# Altium footprint library IDC.PcbLib: 30 footprints (part 1 of 2)
Each footprint in its own frame and in the unit in brackets; x right, y up, seen from the top. Pads: shape width x height; smd on the part's side, far side on the other; paste and mask are expansions set on the pad; w line width, h text height; cw(c..) or ccw(c..) is an arc to the next point about the centre after c.
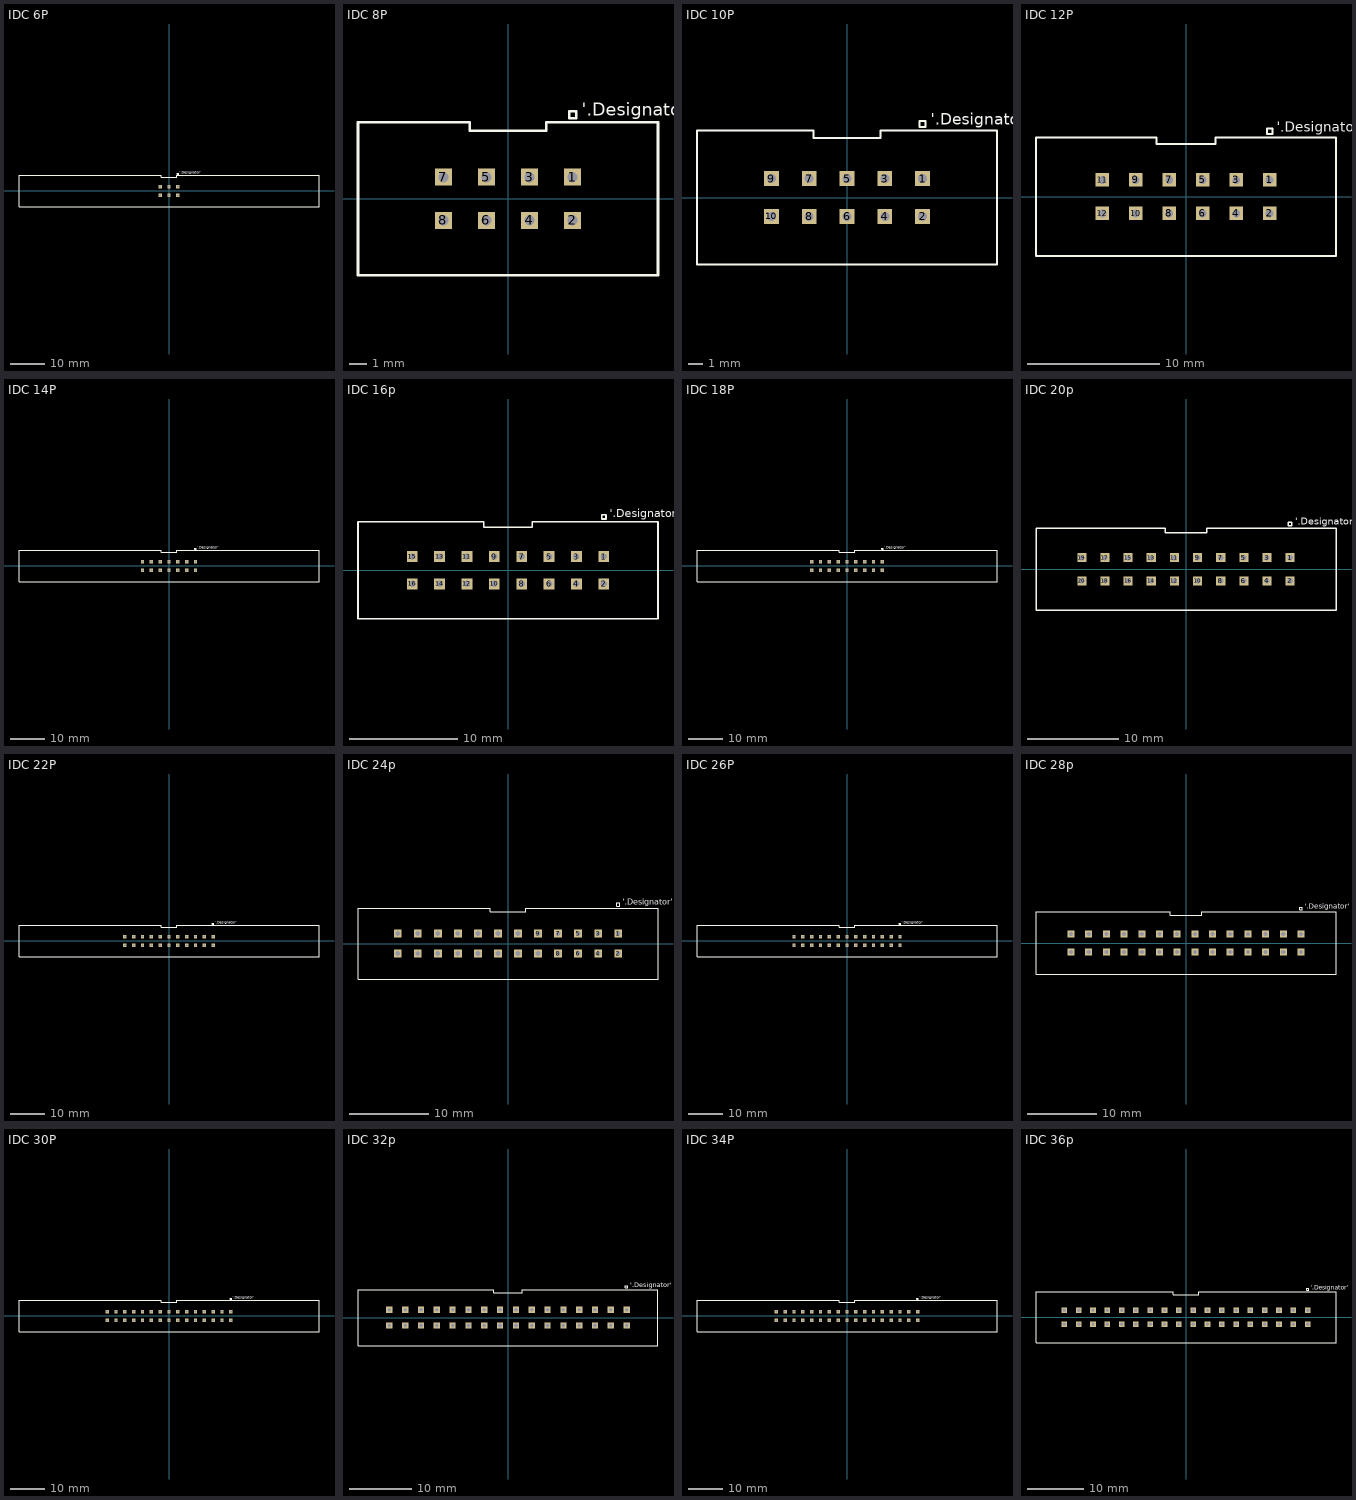
[diagram p0: the footprints below, top view; thin cyan lines are the x and y axes]

## IDC 6P [mm]
pads (6):
  rect 1x1 hole 0.6: 1(2.54,1.27) 2(2.54,-1.27) 3(0,1.27) 4(0,-1.27) 5(-2.54,1.27) 6(-2.54,-1.27)
Top Overlay:
  lines w0.15: -43.13,-4.5 -43.13,4.5 -2.25,4.5 -2.25,4 2.25,4 2.25,4.5 43.13,4.5 43.13,-4.5 -43.13,-4.5 ; 2.34,4.75 2.34,5.15 2.74,5.15 2.74,4.75 2.34,4.75
  text "'.Designator'" at 3.09,4.9 h0.75

## IDC 8P [mm]
pads (8):
  rect 1x1 hole 0.6: 1(3.81,1.27) 2(3.81,-1.27) 3(1.27,1.27) 4(1.27,-1.27) 5(-1.27,1.27) 6(-1.27,-1.27) 7(-3.81,1.27) 8(-3.81,-1.27)
Top Overlay:
  lines w0.15: -8.84,-4.5 8.84,-4.5 8.84,4.5 2.25,4.5 2.25,4 -2.25,4 -2.25,4.5 -8.84,4.5 -8.84,-4.5 ; 3.61,4.75 4.01,4.75 4.01,5.15 3.61,5.15 3.61,4.75
  text "'.Designator'" at 4.36,4.9 h0.75

## IDC 10P [mm]
pads (10):
  rect 1x1 hole 0.6: 1(5.08,1.27) 2(5.08,-1.27) 3(2.54,1.27) 4(2.54,-1.27) 5(0,1.27) 6(0,-1.27) 7(-2.54,1.27) 8(-2.54,-1.27) 9(-5.08,1.27) 10(-5.08,-1.27)
Top Overlay:
  lines w0.15: -10.08,-4.5 -10.08,4.5 -2.25,4.5 -2.25,4 2.25,4 2.25,4.5 10.08,4.5 10.08,-4.5 -10.08,-4.5 ; 4.88,4.75 4.88,5.15 5.28,5.15 5.28,4.75 4.88,4.75
  text "'.Designator'" at 5.63,4.9 h0.75

## IDC 12P [mm]
pads (12):
  rect 1x1 hole 0.6: 1(6.35,1.27) 2(6.35,-1.27) 3(3.81,1.27) 4(3.81,-1.27) 5(1.27,1.27) 6(1.27,-1.27) 7(-1.27,1.27) 8(-1.27,-1.27) 9(-3.81,1.27) 10(-3.81,-1.27) 11(-6.35,1.27) 12(-6.35,-1.27)
Top Overlay:
  lines w0.15: -11.38,-4.5 -11.38,4.5 -2.25,4.5 -2.25,4 2.25,4 2.25,4.5 11.38,4.5 11.38,-4.5 -11.38,-4.5 ; 6.15,4.75 6.15,5.15 6.55,5.15 6.55,4.75 6.15,4.75
  text "'.Designator'" at 6.9,4.9 h0.75

## IDC 14P [mm]
pads (14):
  rect 1x1 hole 0.6: 1(7.62,1.27) 2(7.62,-1.27) 3(5.08,1.27) 4(5.08,-1.27) 5(2.54,1.27) 6(2.54,-1.27) 7(0,1.27) 8(0,-1.27) 9(-2.54,1.27) 10(-2.54,-1.27) 11(-5.08,1.27) 12(-5.08,-1.27) 13(-7.62,1.27) 14(-7.62,-1.27)
Top Overlay:
  lines w0.15: -43.13,-4.5 43.13,-4.5 43.13,4.5 2.25,4.5 2.25,4 -2.25,4 -2.25,4.5 -43.13,4.5 -43.13,-4.5 ; 7.42,4.75 7.82,4.75 7.82,5.15 7.42,5.15 7.42,4.75
  text "'.Designator'" at 8.17,4.9 h0.75

## IDC 16p [mm]
pads (16):
  rect 1x1 hole 0.6: 1(8.89,1.27) 2(8.89,-1.27) 3(6.35,1.27) 4(6.35,-1.27) 5(3.81,1.27) 6(3.81,-1.27) 7(1.27,1.27) 8(1.27,-1.27) 9(-1.27,1.27) 10(-1.27,-1.27) 11(-3.81,1.27) 12(-3.81,-1.27) 13(-6.35,1.27) 14(-6.35,-1.27) 15(-8.89,1.27) 16(-8.89,-1.27)
Top Overlay:
  lines w0.15: -13.92,-4.5 13.92,-4.5 13.92,4.5 2.25,4.5 2.25,4 -2.25,4 -2.25,4.5 -13.92,4.5 -13.92,-4.5 ; 8.69,4.75 9.09,4.75 9.09,5.15 8.69,5.15 8.69,4.75
  text "'.Designator'" at 9.44,4.9 h0.75

## IDC 18P [mm]
pads (18):
  rect 1x1 hole 0.6: 1(10.16,1.27) 2(10.16,-1.27) 3(7.62,1.27) 4(7.62,-1.27) 5(5.08,1.27) 6(5.08,-1.27) 7(2.54,1.27) 8(2.54,-1.27) 9(0,1.27) 10(0,-1.27) 11(-2.54,1.27) 12(-2.54,-1.27) 13(-5.08,1.27) 14(-5.08,-1.27) 15(-7.62,1.27) 16(-7.62,-1.27) 17(-10.16,1.27) 18(-10.16,-1.27)
Top Overlay:
  lines w0.15: -43.13,-4.5 43.13,-4.5 43.13,4.5 2.25,4.5 2.25,4 -2.25,4 -2.25,4.5 -43.13,4.5 -43.13,-4.5 ; 9.96,4.75 10.36,4.75 10.36,5.15 9.96,5.15 9.96,4.75
  text "'.Designator'" at 10.71,4.9 h0.75

## IDC 20p [mm]
pads (20):
  rect 1x1 hole 0.6: 1(11.43,1.27) 2(11.43,-1.27) 3(8.89,1.27) 4(8.89,-1.27) 5(6.35,1.27) 6(6.35,-1.27) 7(3.81,1.27) 8(3.81,-1.27) 9(1.27,1.27) 10(1.27,-1.27) 11(-1.27,1.27) 12(-1.27,-1.27) 13(-3.81,1.27) 14(-3.81,-1.27) 15(-6.35,1.27) 16(-6.35,-1.27) 17(-8.89,1.27) 18(-8.89,-1.27) 19(-11.43,1.27) 20(-11.43,-1.27)
Top Overlay:
  lines w0.15: -16.46,-4.5 -16.46,4.5 -2.25,4.5 -2.25,4 2.25,4 2.25,4.5 16.46,4.5 16.46,-4.5 -16.46,-4.5 ; 11.23,4.75 11.23,5.15 11.63,5.15 11.63,4.75 11.23,4.75
  text "'.Designator'" at 11.98,4.9 h0.75

## IDC 22P [mm]
pads (22):
  rect 1x1 hole 0.6: 1(12.7,1.27) 2(12.7,-1.27) 3(10.16,1.27) 4(10.16,-1.27) 5(7.62,1.27) 6(7.62,-1.27) 7(5.08,1.27) 8(5.08,-1.27) 9(2.54,1.27) 10(2.54,-1.27) 11(0,1.27) 12(0,-1.27) 13(-2.54,1.27) 14(-2.54,-1.27) 15(-5.08,1.27) 16(-5.08,-1.27) 17(-7.62,1.27) 18(-7.62,-1.27) 19(-10.16,1.27) 20(-10.16,-1.27) 21(-12.7,1.27) 22(-12.7,-1.27)
Top Overlay:
  lines w0.15: -43.13,-4.5 -43.13,4.5 -2.25,4.5 -2.25,4 2.25,4 2.25,4.5 43.13,4.5 43.13,-4.5 -43.13,-4.5 ; 12.5,4.75 12.5,5.15 12.9,5.15 12.9,4.75 12.5,4.75
  text "'.Designator'" at 13.25,4.9 h0.75

## IDC 24p [mm]
pads (24):
  rect 1x1 hole 0.6: 1(13.97,1.27) 2(13.97,-1.27) 3(11.43,1.27) 4(11.43,-1.27) 5(8.89,1.27) 6(8.89,-1.27) 7(6.35,1.27) 8(6.35,-1.27) 9(3.81,1.27) 10(3.81,-1.27) 11(1.27,1.27) 12(1.27,-1.27) 13(-1.27,1.27) 14(-1.27,-1.27) 15(-3.81,1.27) 16(-3.81,-1.27) 17(-6.35,1.27) 18(-6.35,-1.27) 19(-8.89,1.27) 20(-8.89,-1.27) 21(-11.43,1.27) 22(-11.43,-1.27) 23(-13.97,1.27) 24(-13.97,-1.27)
Top Overlay:
  lines w0.15: -19,-4.5 19,-4.5 19,4.5 2.25,4.5 2.25,4 -2.25,4 -2.25,4.5 -19,4.5 -19,-4.5 ; 13.77,4.75 13.77,5.15 14.17,5.15 14.17,4.75 13.77,4.75
  text "'.Designator'" at 14.52,4.9 h0.75

## IDC 26P [mm]
pads (26):
  rect 1x1 hole 0.6: 1(15.24,1.27) 2(15.24,-1.27) 3(12.7,1.27) 4(12.7,-1.27) 5(10.16,1.27) 6(10.16,-1.27) 7(7.62,1.27) 8(7.62,-1.27) 9(5.08,1.27) 10(5.08,-1.27) 11(2.54,1.27) 12(2.54,-1.27) 13(0,1.27) 14(0,-1.27) 15(-2.54,1.27) 16(-2.54,-1.27) 17(-5.08,1.27) 18(-5.08,-1.27) 19(-7.62,1.27) 20(-7.62,-1.27) 21(-10.16,1.27) 22(-10.16,-1.27) 23(-12.7,1.27) 24(-12.7,-1.27) 25(-15.24,1.27) 26(-15.24,-1.27)
Top Overlay:
  lines w0.15: -43.13,-4.5 -43.13,4.5 -2.25,4.5 -2.25,4 2.25,4 2.25,4.5 43.13,4.5 43.13,-4.5 -43.13,-4.5 ; 15.04,4.75 15.44,4.75 15.44,5.15 15.04,5.15 15.04,4.75
  text "'.Designator'" at 15.79,4.9 h0.75

## IDC 28p [mm]
pads (28):
  rect 1x1 hole 0.6: 1(16.51,1.27) 2(16.51,-1.27) 3(13.97,1.27) 4(13.97,-1.27) 5(11.43,1.27) 6(11.43,-1.27) 7(8.89,1.27) 8(8.89,-1.27) 9(6.35,1.27) 10(6.35,-1.27) 11(3.81,1.27) 12(3.81,-1.27) 13(1.27,1.27) 14(1.27,-1.27) 15(-1.27,1.27) 16(-1.27,-1.27) 17(-3.81,1.27) 18(-3.81,-1.27) 19(-6.35,1.27) 20(-6.35,-1.27) 21(-8.89,1.27) 22(-8.89,-1.27) 23(-11.43,1.27) 24(-11.43,-1.27) 25(-13.97,1.27) 26(-13.97,-1.27) 27(-16.51,1.27) 28(-16.51,-1.27)
Top Overlay:
  lines w0.15: -21.54,-4.5 -21.54,4.5 -2.25,4.5 -2.25,4 2.25,4 2.25,4.5 21.54,4.5 21.54,-4.5 -21.54,-4.5 ; 16.31,4.75 16.71,4.75 16.71,5.15 16.31,5.15 16.31,4.75
  text "'.Designator'" at 17.06,4.9 h0.75

## IDC 30P [mm]
pads (30):
  rect 1x1 hole 0.6: 1(17.78,1.27) 2(17.78,-1.27) 3(15.24,1.27) 4(15.24,-1.27) 5(12.7,1.27) 6(12.7,-1.27) 7(10.16,1.27) 8(10.16,-1.27) 9(7.62,1.27) 10(7.62,-1.27) 11(5.08,1.27) 12(5.08,-1.27) 13(2.54,1.27) 14(2.54,-1.27) 15(0,1.27) 16(0,-1.27) 17(-2.54,1.27) 18(-2.54,-1.27) 19(-5.08,1.27) 20(-5.08,-1.27) 21(-7.62,1.27) 22(-7.62,-1.27) 23(-10.16,1.27) 24(-10.16,-1.27) 25(-12.7,1.27) 26(-12.7,-1.27) 27(-15.24,1.27) 28(-15.24,-1.27) 29(-17.78,1.27) 30(-17.78,-1.27)
Top Overlay:
  lines w0.15: -43.13,-4.5 43.13,-4.5 43.13,4.5 2.25,4.5 2.25,4 -2.25,4 -2.25,4.5 -43.13,4.5 -43.13,-4.5 ; 17.58,4.75 17.98,4.75 17.98,5.15 17.58,5.15 17.58,4.75
  text "'.Designator'" at 18.33,4.9 h0.75

## IDC 32p [mm]
pads (32):
  rect 1x1 hole 0.6: 1(19.05,1.27) 2(19.05,-1.27) 3(16.51,1.27) 4(16.51,-1.27) 5(13.97,1.27) 6(13.97,-1.27) 7(11.43,1.27) 8(11.43,-1.27) 9(8.89,1.27) 10(8.89,-1.27) 11(6.35,1.27) 12(6.35,-1.27) 13(3.81,1.27) 14(3.81,-1.27) 15(1.27,1.27) 16(1.27,-1.27) 17(-1.27,1.27) 18(-1.27,-1.27) 19(-3.81,1.27) 20(-3.81,-1.27) 21(-6.35,1.27) 22(-6.35,-1.27) 23(-8.89,1.27) 24(-8.89,-1.27) 25(-11.43,1.27) 26(-11.43,-1.27) 27(-13.97,1.27) 28(-13.97,-1.27) 29(-16.51,1.27) 30(-16.51,-1.27) 31(-19.05,1.27) 32(-19.05,-1.27)
Top Overlay:
  lines w0.15: -24.08,-4.5 24.08,-4.5 24.08,4.5 2.25,4.5 2.25,4 -2.25,4 -2.25,4.5 -24.08,4.5 -24.08,-4.5 ; 18.85,4.75 19.25,4.75 19.25,5.15 18.85,5.15 18.85,4.75
  text "'.Designator'" at 19.6,4.9 h0.75

## IDC 34P [mm]
pads (34):
  rect 1x1 hole 0.6: 1(20.32,1.27) 2(20.32,-1.27) 3(17.78,1.27) 4(17.78,-1.27) 5(15.24,1.27) 6(15.24,-1.27) 7(12.7,1.27) 8(12.7,-1.27) 9(10.16,1.27) 10(10.16,-1.27) 11(7.62,1.27) 12(7.62,-1.27) 13(5.08,1.27) 14(5.08,-1.27) 15(2.54,1.27) 16(2.54,-1.27) 17(0,1.27) 18(0,-1.27) 19(-2.54,1.27) 20(-2.54,-1.27) 21(-5.08,1.27) 22(-5.08,-1.27) 23(-7.62,1.27) 24(-7.62,-1.27) 25(-10.16,1.27) 26(-10.16,-1.27) 27(-12.7,1.27) 28(-12.7,-1.27) 29(-15.24,1.27) 30(-15.24,-1.27) 31(-17.78,1.27) 32(-17.78,-1.27) 33(-20.32,1.27) 34(-20.32,-1.27)
Top Overlay:
  lines w0.15: -43.13,-4.5 43.13,-4.5 43.13,4.5 2.25,4.5 2.25,4 -2.25,4 -2.25,4.5 -43.13,4.5 -43.13,-4.5 ; 20.12,4.75 20.52,4.75 20.52,5.15 20.12,5.15 20.12,4.75
  text "'.Designator'" at 20.87,4.9 h0.75

## IDC 36p [mm]
pads (36):
  rect 1x1 hole 0.6: 1(21.59,1.27) 2(21.59,-1.27) 3(19.05,1.27) 4(19.05,-1.27) 5(16.51,1.27) 6(16.51,-1.27) 7(13.97,1.27) 8(13.97,-1.27) 9(11.43,1.27) 10(11.43,-1.27) 11(8.89,1.27) 12(8.89,-1.27) 13(6.35,1.27) 14(6.35,-1.27) 15(3.81,1.27) 16(3.81,-1.27) 17(1.27,1.27) 18(1.27,-1.27) 19(-1.27,1.27) 20(-1.27,-1.27) 21(-3.81,1.27) 22(-3.81,-1.27) 23(-6.35,1.27) 24(-6.35,-1.27) 25(-8.89,1.27) 26(-8.89,-1.27) 27(-11.43,1.27) 28(-11.43,-1.27) 29(-13.97,1.27) 30(-13.97,-1.27) 31(-16.51,1.27) 32(-16.51,-1.27) 33(-19.05,1.27) 34(-19.05,-1.27) 35(-21.59,1.27) 36(-21.59,-1.27)
Top Overlay:
  lines w0.15: -26.62,-4.5 -26.62,4.5 -2.25,4.5 -2.25,4 2.25,4 2.25,4.5 26.62,4.5 26.62,-4.5 -26.62,-4.5 ; 21.39,4.75 21.79,4.75 21.79,5.15 21.39,5.15 21.39,4.75
  text "'.Designator'" at 22.14,4.9 h0.75